# Altium integrated library Transistor.IntLib: 18 symbols
Pins are listed as number, name and electrical type; pins without a type are passive.

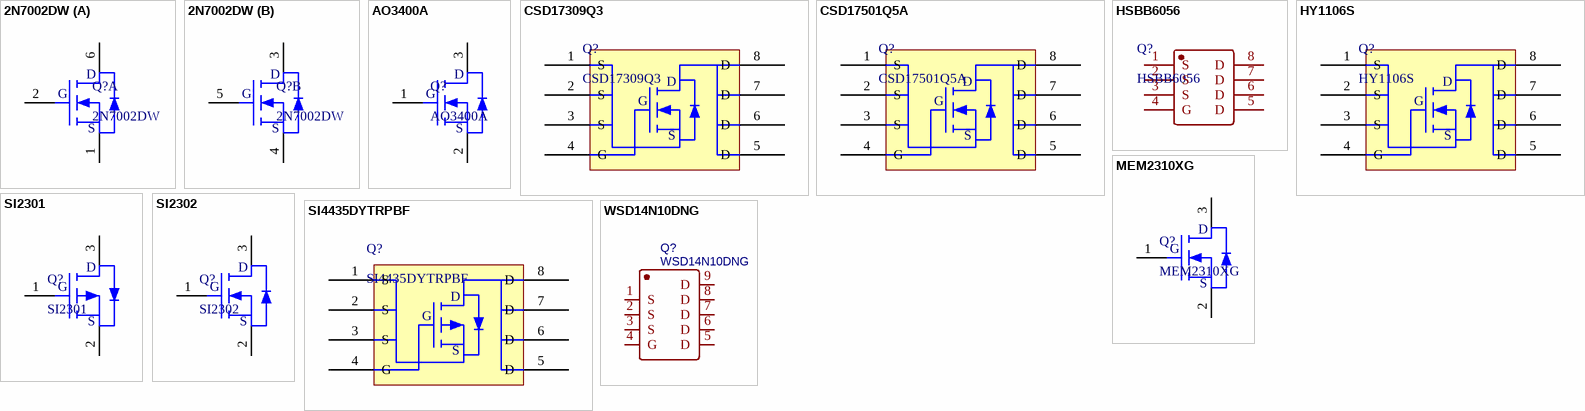
[diagram p0: symbols 2N7002DW to WSD14N10DNG]

## 2N7002DW
designator Q?
N-Channel Enhancement Mode Field Effect Transistor
footprint SC-70-6 (SOT23, 6-Leads, Body 2.00x2.10mm, Pitch 0.65mm, IPC Medium Density)
part A pins: 1 S, 2 G, 6 D
part B pins: 3 D, 4 S, 5 G

## AO3400A
designator Q?
N沟道MOS Vdss：30V Id：5.7A
footprint SOT-23 (SOT23, 3-Leads, Body 2.90x2.45mm, Pitch 0.95mm, IPC Medium Density)
pins: 1 G, 2 S, 3 G
text: D

## CSD17309Q3
designator Q?
30V, N-Channel NexFET™ Power MOSFET
footprint SON-5_3_3x3_3mm_P0.65mm (SON, 8-Leads, Body 3.30x3.30mm, Pitch 0.65mm, Thermal Pad 2.50x1.55mm, IPC Medium Density)
pins: 1 S, 2 S, 3 S, 4 G, 5 D, 6 D, 7 D, 8 D

## CSD17501Q5A
designator Q?
30V, N-Channel NexFET™ Power MOSFETs, VGS = 4.5V 3 mΩ
footprint SON-5_5x6mm_P1.27mm (SON, 8-Leads, Body 4.90x6.00mm, Pitch 1.27mm, Thermal Pad 2.50x1.55mm, IPC Medium Density)
pins: 1 S, 2 S, 3 S, 4 G, 5 D, 6 D, 7 D, 8 D

## HSBB6056
designator Q?
footprint PRPAK-8_L3.0-W3.0-P0.65-BL-EP
pins: 1 S, 2 S, 3 S, 4 G, 5 D, 6 D, 7 D, 8 D

## HY1106S
designator Q?
60V, 11A, N-Channel NexFET™ Power MOSFET
footprint SO-8_3.9x4.9mm_P1.27mm (SOIC, 8-Leads, Body 4.9x3.90mm, Pitch 1.27mm, IPC Medium Density)
pins: 1 S, 2 S, 3 S, 4 G, 5 D, 6 D, 7 D, 8 D

## MEM2310XG
designator Q?
N-Channel MOSFET MEM2310X
footprint SOT-23 (SOT23, 3-Leads, Body 2.90x2.45mm, Pitch 0.95mm, IPC Medium Density)
pins: 1 G, 2 S, 3 G
text: D

## SI2301
designator Q?
SI2301 -20V 4A P-Channel Enhancement Mode MOSFET VDS=-20V
footprint SOT-23 (SOT23, 3-Leads, Body 2.90x2.45mm, Pitch 0.95mm, IPC Medium Density)
pins: 1 G, 2 S, 3 G
text: D

## SI2302
designator Q?
SI2302 PUOLOP 20V 4A N-Channel Enhancement Mode MOSFET VDS=20V
footprint SOT-23 (SOT23, 3-Leads, Body 2.90x2.45mm, Pitch 0.95mm, IPC Medium Density)
pins: 1 G, 2 S, 3 G
text: D

## SI4435DYTRPBF
designator Q?
Infineon P-MOS  Vdss = -30V Rds(on) = 0.02R
footprint SO-8_3.9x4.9mm_P1.27mm (SOIC, 8-Leads, Body 4.9x3.90mm, Pitch 1.27mm, IPC Medium Density)
pins: 1 S, 2 S, 3 S, 4 G, 5 D, 6 D, 7 D, 8 D

## WSD14N10DNG
designator Q?
BOM_Manufacturer: Winsok Semicon; Contributor: LCSC; BOM_Supplier: LCSC; BOM_Supplier Part: C719096; BOM_Manufacturer Part: WSD14N10DNG; BOM_JLCPCB Part Class: Extended Part; spicePre: Q; spiceSymbolName: WSD14N10DNG
footprint POWERVDFN-8_L3.2-W3.1-P0.65-LS3.3-BL-1
pins: 1 S, 2 S, 3 S, 4 G, 5 D, 6 D, 7 D, 8 D, 9 D


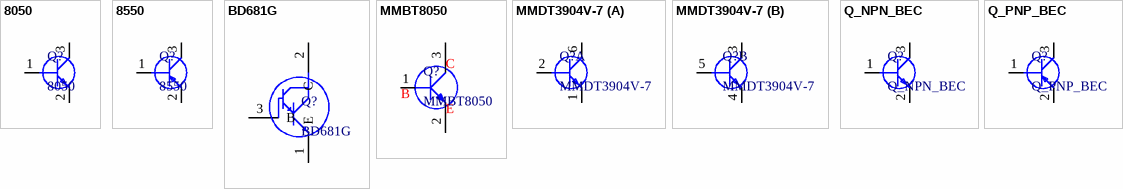
[diagram p1: symbols 8050 to Q_PNP_BEC]

## 8050
designator Q?
NPN transistor, base/emitter/collector
footprint SOT-23 (SOT23, 3-Leads, Body 2.90x2.45mm, Pitch 0.95mm, IPC Medium Density)
pins: 1 B, 2 E, 3 C

## 8550
designator Q?
PNP transistor, base/emitter/collector
footprint SOT-23 (SOT23, 3-Leads, Body 2.90x2.45mm, Pitch 0.95mm, IPC Medium Density)
pins: 1 B, 2 E, 3 C

## BD681G
designator Q?
BD681G 达林顿管 4A 40W
footprint TO-225
pins: 1 E, 2 C, 3 B

## MMBT8050
designator Q?
NPN Silicon Epitaxial Planar Transistor
footprint SOT-23 (SOT23, 3-Leads, Body 2.90x2.45mm, Pitch 0.95mm, IPC Medium Density)
pins: 1 B, 2 E, 3 C

## MMDT3904V-7
designator Q?
晶体管类型：2个NPN 集射极击穿电压(Vceo)：40V 集电极电流(Ic)：200mA 功率(Pd)：200mW 集电极-发射极饱和电压(VCE(sat)@Ic,Ib)：300mV@50mA,5mA 直流电流增益(hFE@Ic,Vce)：100@10mA,1V 特征频率(fT)：300MHz 工作温度：-55℃~+150℃@(Tj)
footprint SOT-563 (SOTFL, 6-Leads, Body 1.70x1.70mm, Pitch 0.50mm, IPC Medium Density)
part A pins: 1 E1, 2 B1, 6 C1
part B pins: 3 C2, 4 E2, 5 B2

## Q_NPN_BEC
designator Q?
NPN transistor, base/emitter/collector
footprint SOT-23 (SOT23, 3-Leads, Body 2.90x2.45mm, Pitch 0.95mm, IPC Medium Density)
pins: 1 B, 2 E, 3 C

## Q_PNP_BEC
designator Q?
PNP transistor, base/emitter/collector
footprint SOT-23 (SOT23, 3-Leads, Body 2.90x2.45mm, Pitch 0.95mm, IPC Medium Density)
pins: 1 B, 2 E, 3 C